# Altium footprint library WatcherJet.PcbLib: 36 footprints (part 2 of 3)
Each footprint in its own frame and in the unit in brackets; x right, y up, seen from the top. Pads: shape width x height; smd on the part's side, far side on the other; paste and mask are expansions set on the pad; w line width, h text height; cw(c..) or ccw(c..) is an arc to the next point about the centre after c.
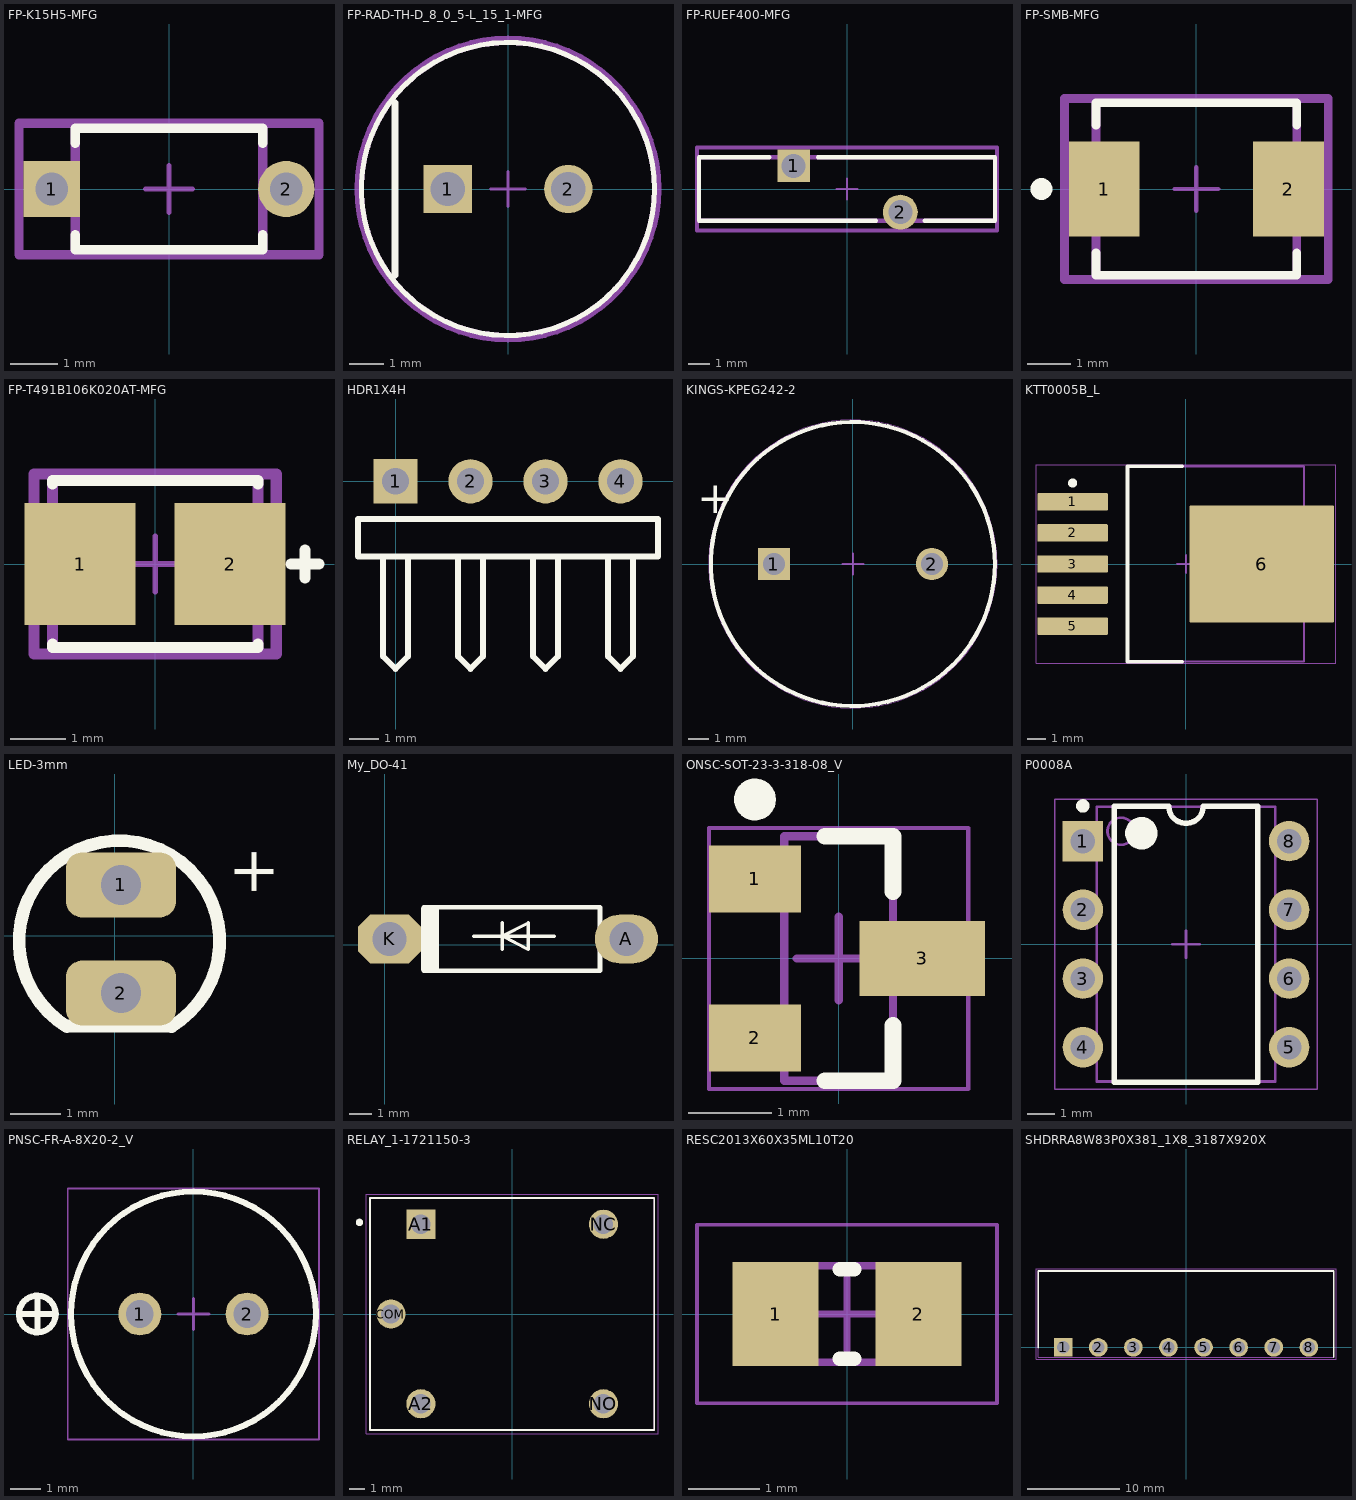
[diagram p1: the footprints below, top view; thin cyan lines are the x and y axes]

## FP-K15H5-MFG [mm]
height 2.72
pads (2):
  rect 1.2x1.2 hole 0.7 paste-1000 mask+0: 1(-2.5,0)
  round 1.2 hole 0.7 paste-1000 mask+0: 2(2.5,0)
Top Overlay:
  lines w0.2: -2,-0.975 -2,-1.3 2,-1.3 2,-0.975 ; -2,0.975 -2,1.3 2,1.3 2,0.975
Top 3D Body:
  lines w0.2: -2,-1.3 -2,1.3 2,1.3 2,-1.3 -2,-1.3
Top Courtyard:
  lines w0.2: -3.2,-1.4 -3.2,1.4 3.2,1.4 3.2,-1.4 -3.2,-1.4
Top Assembly:
  lines w0.2: -3.2,-1.4 -3.2,1.4 3.2,1.4 3.2,-1.4 -3.2,-1.4
  text ".Designator" at 0,0.188 h1
Top Component Center:
  lines w0.1: -0.5,0 0.5,0 ; 0,-0.5 0,0.5
3D body "Cap_Vishay_K104K15X7RF53H5_eec.STEP": height 0.25, standoff 0, extent -3.2,-1.4 3.2,1.4

## FP-RAD-TH-D_8_0_5-L_15_1-MFG [mm]
height 2.72
pads (2):
  rect 1.4x1.4 hole 1: 1(-1.75,0)
  round 1.4 hole 1: 2(1.75,0)
Top Overlay:
  circle w0.15: c0,0 r4.25
  lines w0.2: -3.275,-2.5 -3.275,2.5
Top 3D Body:
  circle w0.15: c0,0 r4.25
Top Courtyard:
  lines w0.2: -4.35,0 ccw(c0,0) 4.35,0 ccw(c0,0) -4.35,0
Top Assembly:
  text ".Designator" at 0,0.188 h1
Top Component Center:
  lines w0.1: -0.5,0 0.5,0 ; 0,-0.5 0,0.5
3D body "Cap_Panasonic_EEUFK1V271LB_eec.STEP": height 0.25, standoff 0, extent -4.35,-4.35 4.35,4.35

## FP-RUEF400-MFG [mm]
height 2.72
pads (2):
  rect 1.55x1.55 hole 1.143 paste-1000 mask+0: 1(-2.525,1.095)
  round 1.651 hole 1.143 paste-1000 mask+0: 2(2.525,-1.095)
Top Overlay:
  lines w0.2: -3.675,1.5 -7,1.5 -7,-1.5 1.375,-1.5 ; -1.375,1.5 7,1.5 7,-1.5 3.675,-1.5
Top 3D Body:
  lines w0.2: -7,-1.5 7,-1.5 7,1.5 -7,1.5 -7,-1.5
Top Courtyard:
  lines w0.2: -7.1,-1.97 7.1,-1.97 7.1,1.97 -7.1,1.97 -7.1,-1.97
Top Assembly:
  lines w0.2: -7.1,-1.97 7.1,-1.97 7.1,1.97 -7.1,1.97 -7.1,-1.97
  text ".Designator" at 0,0.188 h1
Top Component Center:
  lines w0.1: -0.5,0 0.5,0 ; 0,-0.5 0,0.5
3D body "Fuse_Littelfuse_RUEF400_eec.STEP": height 0.25, standoff 0, extent -7.1,-1.97 7.1,1.97

## FP-SMB-MFG [mm]
pads (2):
  rect 1.62x2.18 smd paste+0 mask+0: 1(-2.11,0) 2(2.11,0)
Top Overlay:
  circle w0.25: c-3.55,0 r0.125
  lines w0.2: -2.3,-1.465 -2.3,-1.975 2.3,-1.975 2.3,-1.465 ; -2.3,1.465 -2.3,1.975 2.3,1.975 2.3,1.465
Top 3D Body:
  lines w0.2: -2.3,-1.975 -2.3,1.975 2.3,1.975 2.3,-1.975 -2.3,-1.975
Top Courtyard:
  lines w0.2: -3.02,-2.075 -3.02,2.075 3.02,2.075 3.02,-2.075 -3.02,-2.075
Top Assembly:
  lines w0.2: -3.02,-2.075 -3.02,2.075 3.02,2.075 3.02,-2.075 -3.02,-2.075
  text ".Designator" at 0,0.188 h1
Top Component Center:
  lines w0.1: -0.5,0 0.5,0 ; 0,-0.5 0,0.5
3D body "Diode_STMicroelectronics_SMBJ30A-TR_eec.STEP": height 0.25, standoff 0, extent -3.02,-2.075 3.02,2.075

## FP-T491B106K020AT-MFG [mm]
pads (2):
  rect 2x2.2 smd: 1(-1.35,0) 2(1.35,0)
Top Overlay:
  lines w0.2: -1.85,-1.44 -1.85,-1.5 1.85,-1.5 1.85,-1.44 ; -1.85,1.44 -1.85,1.5 1.85,1.5 1.85,1.44 ; 2.45,0 2.95,0 ; 2.7,-0.25 2.7,0.25
Top 3D Body:
  lines w0.2: -1.85,-1.5 -1.85,1.5 1.85,1.5 1.85,-1.5 -1.85,-1.5
Top Courtyard:
  lines w0.2: -2.18,-1.62 -2.18,1.62 2.18,1.62 2.18,-1.62 -2.18,-1.62
Top Assembly:
  lines w0.2: -2.18,-1.62 -2.18,1.62 2.18,1.62 2.18,-1.62 -2.18,-1.62
  text ".Designator" at 0,-0.001 h1
Top Component Center:
  lines w0.1: -0.5,0 0.5,0 ; 0,-0.5 0,0.5
3D body "Cap_Kemet_T491B106K020AT_eec.STEP": height 0.25, standoff 0, extent -2.18,-1.62 2.18,1.62

## HDR1X4H [mm] "Connector; Header; 4 Position; Right Angle"
height 2.72
pads (4):
  rect 1.5x1.5 hole 0.9: 1(0,0)
  round 1.5 hole 0.9: 2(2.54,0) 3(5.08,0) 4(7.62,0)
Top Overlay:
  lines w0.2: -0.423,-2.54 -0.423,-5.927 0,-6.35 0.423,-5.927 0.423,-2.54 ; 2.117,-2.54 2.117,-5.927 2.54,-6.35 2.963,-5.927 2.963,-2.54 ; 4.657,-2.54 4.657,-5.927 5.08,-6.35 5.503,-5.927 5.503,-2.54 ; 7.197,-2.54 7.197,-5.927 7.62,-6.35 8.043,-5.927 8.043,-2.54 ; -1.27,-2.54 8.89,-2.54 8.89,-1.27 -1.27,-1.27 -1.27,-2.54

## KINGS-KPEG242-2 [mm] "THD, 2-Leads, Dia 13.7mm, Pitch 7.62mm"
height 7.6
pads (2):
  rect 1.55x1.55 hole 1.05: 1(-3.81,0)
  round 1.55 hole 1.05: 2(3.81,0)
Top Overlay:
  circle w0.2: c0,0 r6.85
  text "+" at -7.518,2.447 h1.52
Mechanical 13:
  circle w0.1: c0,0 r6.85
Mechanical 15:
  circle w0.05: c0,0 r6.95
  lines w0.1: -0.5,0 0.5,0 ; 0,-0.5 0,0.5
3D body: height 7.6, standoff 0, extent -6.849,-6.849 6.849,6.849

## KTT0005B_L [mm] "DPAK, 5-Leads, Body 10.65x9.65mm, Pitch 1.7mm, IPC High Density"
height 4.83
pads (6):
  rrect11% 3.85x0.95 smd: 1(-6.2,3.4) 2(-6.2,1.7) 3(-6.2,0) 4(-6.2,-1.7) 5(-6.2,-3.4)
  rrect2% 7.9x6.4 smd: 6(4.15,0)
Top Overlay:
  circle w0.25: c-6.2,4.425 r0.125
  lines w0.2: -0.2,-5.35 -3.2,-5.35 -3.2,5.35 -0.2,5.35
Mechanical 1:
  text ".Designator" at -1.905,-0.508 h1.3
Mechanical 13:
  lines w0.1: -3.2,-5.325 6.45,-5.325 6.45,5.325 -3.2,5.325 -3.2,-5.325
Mechanical 15:
  lines w0.05: -8.2,-5.425 8.2,-5.425 8.2,5.425 -8.2,5.425 -8.2,-5.425
  lines w0.1: -0.5,0 0.5,0 ; 0,-0.5 0,0.5
3D body: height 4.83, standoff 0, extent -3.2,-5.325 6.45,5.325

## LED-3mm [mm] "LED; 2 Leads"
pads (2):
  rrect50% 2.2x1.3 hole 0.8: 1(0.127,1.016) 2(0.127,-1.143)
Top Overlay:
  lines w0.254: -0.951,-1.808 cw(c0.094,-0.103) 1.132,-1.812 ; -0.951,-1.8 1.132,-1.8
  text "+" at 3.175,0.762 h0.9

## My_DO-41 [mil]
pads (2):
  oval 110x85 hole 59.06: A(420.71,10)
  oct 110x85 hole 59.06: K(8.9,10)
Top Overlay:
  region: 95.01,65.07 63.51,65.07 63.51,-45.17 95.01,-45.17
  lines w6: 155,15 205,15 ; 205,-8 205,15 ; 205,38 205,15 ; 295,15 205,15 ; 205,15 250,38 250,-8 205,15
  lines w7.87: 68.31,-45.12 374.8,-45.12 374.8,65.12 68.31,65.12

## ONSC-SOT-23-3-318-08_V [mm] "SOT23, 3-Leads, Body 2.92x1.3mm, Pitch 0.95mm"
height 1.11
pads (3):
  rect 1.1x0.8 smd: 1(-1,0.95) 2(-1,-0.95)
  rect 1.5x0.9 smd: 3(1,0)
Top Overlay:
  circle w0.25: c-1,1.9 r0.125
  lines w0.2: -0.165,-1.46 0.65,-1.46 0.65,-0.8 ; -0.165,1.46 0.65,1.46 0.65,0.8
Mechanical 13:
  lines w0.1: -0.65,-1.46 -0.65,1.46 0.65,1.46 0.65,-1.46 -0.65,-1.46
Mechanical 15:
  lines w0.05: -1.55,-1.56 -1.55,1.56 1.55,1.56 1.55,-1.56 -1.55,-1.56
  lines w0.1: -0.5,0 0.5,0 ; 0,-0.5 0,0.5
3D body: height 1.11, standoff 0.01, extent -0.65,-1.46 0.65,1.46

## P0008A [mm] "DIP, 8-Leads, Body 10.15x6.6mm, Pitch 2.54mm"
height 5.08
pads (8):
  rect 1.5x1.5 hole 0.9: 1(-3.81,3.81)
  round 1.5 hole 0.9: 2(-3.81,1.27) 3(-3.81,-1.27) 4(-3.81,-3.81) 5(3.81,-3.81) 6(3.81,-1.27) 7(3.81,1.27) 8(3.81,3.81)
Top Overlay:
  circle w0.25: c-3.81,5.11 r0.125
  circle w0.6: c-1.65,4.1 r0.3
  lines w0.2: -2.65,-5.1 2.65,-5.1 2.65,5.1 0.635,5.1 cw(c0,5.1) -0.635,5.1 -2.65,5.1 -2.65,-5.1
Mechanical 13:
  circle w0.1: c-2.4,4.175 r0.5
  lines w0.1: -3.3,-5.075 3.3,-5.075 3.3,5.075 -3.3,5.075 -3.3,-5.075
Mechanical 15:
  lines w0.05: -4.85,-5.35 4.85,-5.35 4.85,5.35 -4.85,5.35 -4.85,-5.35
  lines w0.1: -0.5,0 0.5,0 ; 0,-0.5 0,0.5
3D body: height 5.08, standoff 0.51, extent -3.3,-5.075 3.3,5.075
3D body: height 0, standoff -1.6, extent 3.675,3.45 3.945,4.17
3D body: height 2.93, standoff 2.66, extent 3.3,3.31 3.945,4.31
3D body: height 2.66, standoff 0, extent 3.675,3.31 3.945,4.31
3D body: height 0, standoff -1.6, extent 3.675,0.91 3.945,1.63
3D body: height 2.93, standoff 2.66, extent 3.3,0.77 3.945,1.77
3D body: height 2.66, standoff 0, extent 3.675,0.77 3.945,1.77
3D body: height 0, standoff -1.6, extent 3.675,-1.63 3.945,-0.91
3D body: height 2.93, standoff 2.66, extent 3.3,-1.77 3.945,-0.77
3D body: height 2.66, standoff 0, extent 3.675,-1.77 3.945,-0.77
3D body: height 0, standoff -1.6, extent 3.675,-4.17 3.945,-3.45
3D body: height 2.93, standoff 2.66, extent 3.3,-4.31 3.945,-3.31
3D body: height 2.66, standoff 0, extent 3.675,-4.31 3.945,-3.31
3D body: height 0, standoff -1.6, extent -3.945,-4.17 -3.675,-3.45
3D body: height 2.93, standoff 2.66, extent -3.945,-4.31 -3.3,-3.31
3D body: height 2.66, standoff 0, extent -3.945,-4.31 -3.675,-3.31
3D body: height 0, standoff -1.6, extent -3.945,-1.63 -3.675,-0.91
3D body: height 2.93, standoff 2.66, extent -3.945,-1.77 -3.3,-0.77
3D body: height 2.66, standoff 0, extent -3.945,-1.77 -3.675,-0.77
3D body: height 0, standoff -1.6, extent -3.945,0.91 -3.675,1.63
3D body: height 2.93, standoff 2.66, extent -3.945,0.77 -3.3,1.77
3D body: height 2.66, standoff 0, extent -3.945,0.77 -3.675,1.77
3D body: height 0, standoff -1.6, extent -3.945,3.45 -3.675,4.17
3D body: height 2.93, standoff 2.66, extent -3.945,3.31 -3.3,4.31
3D body: height 2.66, standoff 0, extent -3.945,3.31 -3.675,4.31

## PNSC-FR-A-8X20-2_V [mm] "Radial Lead, 2-Leads, Dia 8mm, Body Length 22mm, Pin Spacing 3.5mm"
height 22
pads (2):
  round 1.4 hole 0.9: 1(-1.75,0) 2(1.75,0)
Top Overlay:
  circle w0.2: c0,0 r4
  circle w0.2: c-5.1,0 r0.6
  lines w0.2: -5.6,0 -4.6,0 ; -5.1,-0.5 -5.1,0.5
Mechanical 13:
  circle w0.1: c0,0 r4
Mechanical 15:
  lines w0.05: -4.1,-4.1 -4.1,4.1 4.1,4.1 4.1,-4.1 -4.1,-4.1
  lines w0.1: -0.5,0 0.5,0 ; 0,-0.5 0,0.5
3D body: height 0, standoff -3, extent -2.047,-0.299 -1.45,0.3
3D body: height 0, standoff -2, extent 1.452,-0.299 2.05,0.3
3D body: height 22, standoff 0, extent -3.968,-3.992 4,3.992

## RELAY_1-1721150-3 [mm]
pads (5):
  rect 1.95x1.95 hole 1.3: A1(-6.1,6)
  round 1.95 hole 1.3: A2(-6.1,-6) COM(-8.1,0) NC(6.1,6) NO(6.1,-6)
Top Overlay:
  circle w0.3: c-10.2,6.119 r0.1
  lines w0.127: -9.5,-7.75 -9.5,7.75 9.5,7.75 9.5,-7.75 -9.5,-7.75
Mechanical 13:
  lines w0.127: -9.5,-7.75 -9.5,7.75 9.5,7.75 9.5,-7.75 -9.5,-7.75
Mechanical 15:
  lines w0.05: -9.75,-8 -9.75,8 9.75,8 9.75,-8 -9.75,-8

## RESC2013X60X35ML10T20 [mm] "Chip Resistor, 2-Leads, Body 2.1x1.35mm, IPC Low Density"
height 0.6
pads (2):
  rect 1.2x1.45 smd: 1(-1,0) 2(1,0)
Top Overlay:
  lines w0.2: -0.1,-0.625 0.1,-0.625 ; -0.1,0.625 0.1,0.625
Mechanical 13:
  lines w0.1: -1.05,-0.675 -1.05,0.675 1.05,0.675 1.05,-0.675 -1.05,-0.675
Mechanical 15:
  lines w0.05: -2.1,-1.25 -2.1,1.25 2.1,1.25 2.1,-1.25 -2.1,-1.25
  lines w0.1: -0.5,0 0.5,0 ; 0,-0.5 0,0.5
3D body "RESC2012X06N.step": height 0.6, standoff 0, extent -1.05,-0.675 1.05,0.675

## SHDRRA8W83P0X381_1X8_3187X920X [mm]
pads (8):
  rect 2.025x2.025 / inner round 2.025 / far side rect 2.025x2.025 hole 1.35: 1(-13.335,0)
  round 2.025 hole 1.35: 2(-9.525,0) 3(-5.715,0) 4(-1.905,0) 5(1.905,0) 6(5.715,0) 7(9.525,0) 8(13.335,0)
Top Overlay:
  lines w0.2: -16.035,0 -16.035,8.3 16.035,8.3 16.035,-1.05
Mechanical 13:
  lines w0.05: -16.285,-1.3 16.285,-1.3 16.285,8.55 -16.285,8.55 -16.285,-1.3
  lines w0.1: -16.035,-1.05 -16.035,8.3 16.035,8.3 16.035,-1.05 -16.035,-1.05